# EAGLE library part CC1101-MODULE (library cc1101)
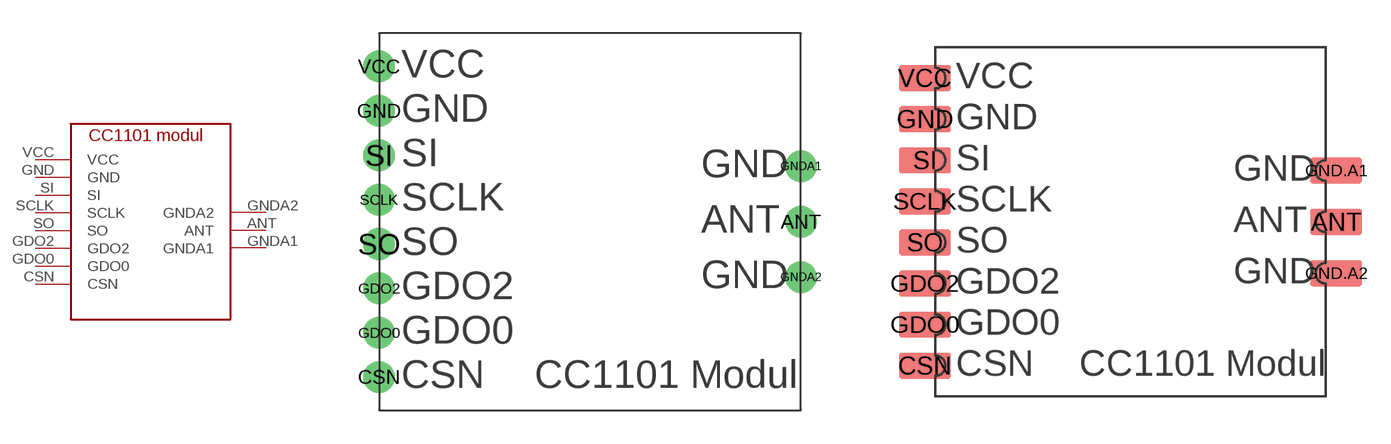
[diagram p0: symbol with the pads of DIP/DIL; footprints DIP/DIL, SMD]

Designator prefix -

## CC1101-MODULE  [DIP/DIL]
ANT  ANT
CSN  CSN  in
GDO0  GDO0  out
GDO2  GDO2  out
GND  GND  pwr
GNDA1  GNDA1
GNDA2  GNDA2
SCLK  SCLK  in
SI  SI  in
SO  SO  out
VCC  VCC  pwr

## CC1101-MODULESMD  [SMD]
ANT  ANT
CSN  CSN  in
GDO0  GDO0  out
GDO2  GDO2  out
GND  GND  pwr
GND.A1  GNDA1
GND.A2  GNDA2
SCLK  SCLK  in
SI  SI  in
SO  SO  out
VCC  VCC  pwr

## CC1101-MODULEPFOSTEN  [PFOSTEN]
CSN  CSN  in
GDO0  GDO0  out
GDO2  GDO2  out
GND  GND  pwr
P$1  ANT
P$2  GNDA1
P$3  GNDA2
SCLK  SCLK  in
SI  SI  in
SO  SO  out
VCC  VCC  pwr

## Footprint DIP/DIL (pad centres in mm)
CC1101 Modul
drill 0.8 pad 1.422: ANT 9,-0.5; CSN -10,-7.5; GDO0 -10,-5.5; GDO2 -10,-3.5; GND -10,4.5; GNDA1 9,2; GNDA2 9,-3; SCLK -10,0.5; SI -10,2.5; SO -10,-1.5; VCC -10,6.5

## Footprint SMD (pad centres in mm)
CC1101 Modul
smd 2.54 x 1.27: ANT 9.5,-0.5; CSN -10.5,-7.5; GDO0 -10.5,-5.5; GDO2 -10.5,-3.5; GND -10.5,4.5; GND.A1 9.5,2; GND.A2 9.5,-3; SCLK -10.5,0.5; SI -10.5,2.5; SO -10.5,-1.5; VCC -10.5,6.5

## Footprint PFOSTEN (pad centres in mm)
CC1101 Modul
smd 5 x 0.7: CSN -7.5,-7.5; GDO0 -7.5,-5.5; GDO2 -7.5,-3.5; GND -7.5,4.5; SCLK -7.5,0.5; SI -7.5,2.5; SO -7.5,-1.5; VCC -7.5,6.5
smd 0 x 0: P$1 -1.5,6; P$2 0,6; P$3 2,6